# EAGLE library part TLP627-4 (library MyLib)
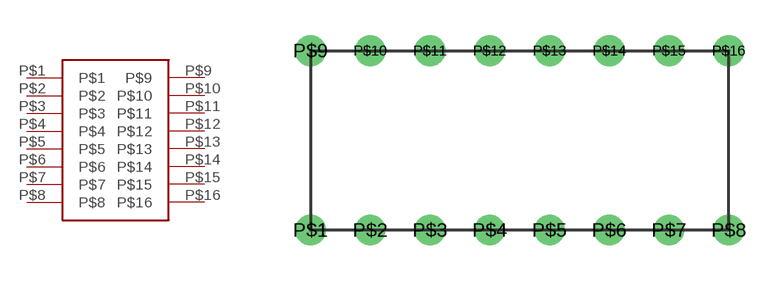
[diagram p3: symbol with the pads of TLP627-4; footprint TLP627-4]

Designator prefix -

## TLP627-4  [TLP627-4]
P$1  P$1
P$2  P$2
P$3  P$3
P$4  P$4
P$5  P$5
P$6  P$6
P$7  P$7
P$8  P$8
P$9  P$9
P$10  P$10
P$11  P$11
P$12  P$12
P$13  P$13
P$14  P$14
P$15  P$15
P$16  P$16

## Footprint TLP627-4 (pad centres in mm)
drill 0.8: P$1 -8.89,-3.81; P$2 -6.35,-3.81; P$3 -3.81,-3.81; P$4 -1.27,-3.81; P$5 1.27,-3.81; P$6 3.81,-3.81; P$7 6.35,-3.81; P$8 8.89,-3.81; P$9 -8.89,3.81; P$10 -6.35,3.81; P$11 -3.81,3.81; P$12 -1.27,3.81; P$13 1.27,3.81; P$14 3.81,3.81; P$15 6.35,3.81; P$16 8.89,3.81